# Altium footprint library LSM6DSV32XTR.PcbLib: 3 footprints
Each footprint in its own frame and in the unit in brackets; x right, y up, seen from the top. Pads: shape width x height; smd on the part's side, far side on the other; paste and mask are expansions set on the pad; w line width, h text height; cw(c..) or ccw(c..) is an arc to the next point about the centre after c.
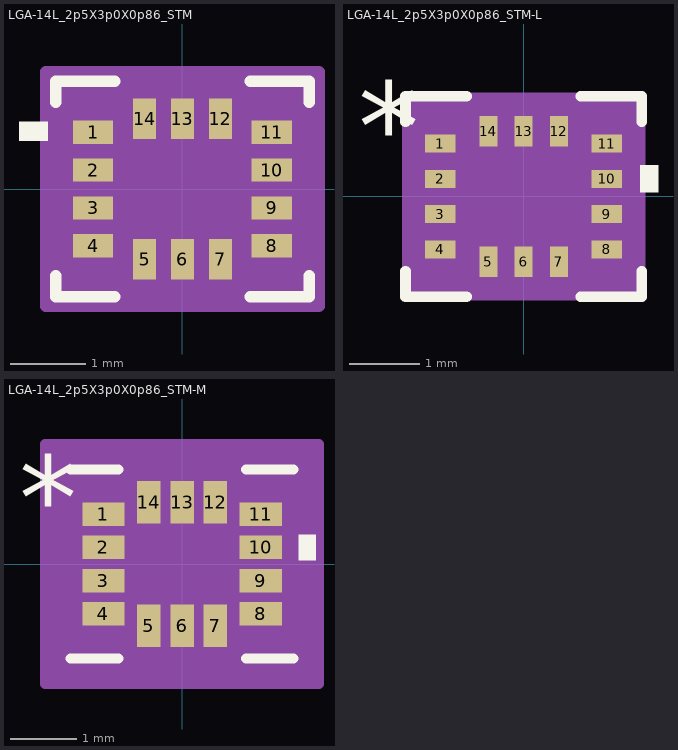
[diagram p0: the footprints below, top view; thin cyan lines are the x and y axes]

## LGA-14L_2p5X3p0X0p86_STM [mil]
pads (14):
  rect 21x12 smd paste+0 mask+0: 1(-46.5,29.53) 2(-46.5,9.84) 3(-46.5,-9.84) 4(-46.5,-29.53) 8(46.5,-29.53) 9(46.5,-9.84) 10(46.5,9.84) 11(46.5,29.53)
  rect 12x21 smd paste+0 mask+0: 5(-19.68,-36.5) 6(0,-36.5) 7(19.68,-36.5) 12(19.68,36.5) 13(0,36.5) 14(-19.68,36.5)
Top Overlay:
  region: -85,25 -85,35 -70,35 -70,25
  lines w6: -66,-45.05 -66,-56 -35.2,-56 ; -66,45.05 -66,56 -35.2,56 ; 35.2,-56 66,-56 66,-45.05 ; 35.2,56 66,56 66,45.05
Mechanical 13:
  lines w1: -61,1 -11,51 ; -61,-51 61,-51 61,51 -61,51 -61,-51 ; -61,-35.53 -61,-23.53 -57,-23.53 -57,-35.53 -61,-35.53 ; -61,-15.84 -61,-3.84 -57,-3.84 -57,-15.84 -61,-15.84 ; -61,3.84 -61,15.84 -57,15.84 -57,3.84 -61,3.84 ; -61,23.53 -61,35.53 -57,35.53 -57,23.53 -61,23.53 ; -25.68,-51 -13.69,-51 -13.69,-47 -25.68,-47 -25.68,-51 ; -25.68,47 -13.69,47 -13.69,51 -25.68,51 -25.68,47 ; -6,-51 6,-51 6,-47 -6,-47 -6,-51 ; -6,47 6,47 6,51 -6,51 -6,47 ; 13.69,-51 25.68,-51 25.68,-47 13.69,-47 13.69,-51 ; 13.69,47 25.68,47 25.68,51 13.69,51 13.69,47 ; 57,-35.53 61,-35.53 61,-23.53 57,-23.53 57,-35.53 ; 57,-15.84 61,-15.84 61,-3.84 57,-3.84 57,-15.84 ; 57,3.84 61,3.84 61,15.84 57,15.84 57,3.84 ; 57,23.53 61,23.53 61,35.53 57,35.53 57,23.53
  text "*" at -48.5,14.37 h50
Mechanical 15:
  region: -35.69,-61 -71,-61 -71,-45.53 -71,45.53 -71,61 -35.69,61 35.69,61 71,61 71,45.53 71,-45.53 71,-61 35.69,-61
  lines w6: -71,-61 -71,-45.53 -71,45.53 -71,61 -35.69,61 35.69,61 71,61 71,45.53 71,-45.53 71,-61 35.69,-61 -35.69,-61 -71,-61
3D body "LGA-14L_2p5X3p0X0p86_STM.step": height 34.09, standoff 0, extent -60.98,-50.98 60.98,50.98

## LGA-14L_2p5X3p0X0p86_STM-L [mil]
pads (14):
  rect 17.06x10.03 smd paste+0 mask+0: 1(-46.5,29.53) 2(-46.5,9.84) 3(-46.5,-9.84) 4(-46.5,-29.53) 8(46.5,-29.53) 9(46.5,-9.84) 10(46.5,9.84) 11(46.5,29.53)
  rect 10.03x17.06 smd paste+0 mask+0: 5(-19.68,-36.5) 6(0,-36.5) 7(19.68,-36.5) 12(19.68,36.5) 13(0,36.5) 14(-19.68,36.5)
Top Overlay:
  region: 65.03,17.34 75.03,17.34 75.03,2.34 65.03,2.34
  lines w6: -66,-41.71 -66,-56 -31.86,-56 ; -66,41.71 -66,56 -31.86,56 ; 31.86,-56 66,-56 66,-41.71 ; 31.86,56 66,56 66,41.71
  text "*" at -92.53,14.37 h50
  text ".Designator" at -137.5,-25 h50
Mechanical 13:
  lines w1: -61,1 -11,51 ; -61,-51 61,-51 ; -61,-51 -61,51 ; -61,-51 -61,-51 ; -61,51 61,51 ; -61,51 -61,51 ; 61,-51 61,-51 ; 61,-51 61,51 ; 61,51 61,51 ; -61,-35.53 -61,-23.53 -57,-23.53 -57,-35.53 -61,-35.53 ; -61,-15.84 -61,-3.84 -57,-3.84 -57,-15.84 -61,-15.84 ; -61,3.84 -61,15.84 -57,15.84 -57,3.84 -61,3.84 ; -61,23.53 -61,35.53 -57,35.53 -57,23.53 -61,23.53 ; -25.68,-51 -13.69,-51 -13.69,-47 -25.68,-47 -25.68,-51 ; -25.68,47 -13.69,47 -13.69,51 -25.68,51 -25.68,47 ; -6,-51 6,-51 6,-47 -6,-47 -6,-51 ; -6,47 6,47 6,51 -6,51 -6,47 ; 13.69,-51 25.68,-51 25.68,-47 13.69,-47 13.69,-51 ; 13.69,47 25.68,47 25.68,51 13.69,51 13.69,47 ; 57,-35.53 61,-35.53 61,-23.53 57,-23.53 57,-35.53 ; 57,-15.84 61,-15.84 61,-3.84 57,-3.84 57,-15.84 ; 57,3.84 61,3.84 61,15.84 57,15.84 57,3.84 ; 57,23.53 61,23.53 61,35.53 57,35.53 57,23.53
  text ".Designator" at -137.5,-25 h50
  text "*" at -50.47,14.37 h50
Mechanical 15:
  region: -28.7,-55 -65,-55 -65,-38.54 -65,38.54 -65,55 -28.7,55 28.7,55 65,55 65,38.54 65,-38.54 65,-55 28.7,-55
  lines w6: -65,-38.54 -65,-55 -28.7,-55 ; -65,-38.54 -65,-38.54 ; -65,-38.54 -65,38.54 ; -65,38.54 -65,38.54 ; -65,38.54 -65,55 -28.7,55 ; -28.7,-55 28.7,-55 ; -28.7,-55 -28.7,-55 ; -28.7,55 -28.7,55 ; -28.7,55 28.7,55 ; 28.7,-55 65,-55 65,-38.54 ; 28.7,-55 28.7,-55 ; 28.7,55 28.7,55 ; 28.7,55 65,55 65,38.54 ; 65,-38.54 65,38.54 ; 65,-38.54 65,-38.54 ; 65,38.54 65,38.54
3D body "LGA-14L_2p5X3p0X0p86_STM.step": height 34.09, standoff 0, extent -60.98,-50.98 60.98,50.98

## LGA-14L_2p5X3p0X0p86_STM-M [mil]
pads (14):
  rect 24.94x13.97 smd paste+0 mask+0: 1(-46.5,29.53) 2(-46.5,9.84) 3(-46.5,-9.84) 4(-46.5,-29.53) 8(46.5,-29.53) 9(46.5,-9.84) 10(46.5,9.84) 11(46.5,29.53)
  rect 13.97x24.94 smd paste+0 mask+0: 5(-19.68,-36.5) 6(0,-36.5) 7(19.68,-36.5) 12(19.68,36.5) 13(0,36.5) 14(-19.68,36.5)
Top Overlay:
  region: 68.97,17.34 78.97,17.34 78.97,2.34 68.97,2.34
  lines w6: -66,-56 -37.72,-56 ; -66,56 -37.72,56 ; 37.72,-56 66,-56 ; 37.72,56 66,56
  text "*" at -96.47,14.37 h50
  text ".Designator" at -137.5,-25 h50
Mechanical 13:
  lines w1: -61,1 -11,51 ; -61,-51 61,-51 ; -61,-51 -61,51 ; -61,-51 -61,-51 ; -61,51 61,51 ; -61,51 -61,51 ; 61,-51 61,-51 ; 61,-51 61,51 ; 61,51 61,51 ; -61,-35.53 -61,-23.53 -57,-23.53 -57,-35.53 -61,-35.53 ; -61,-15.84 -61,-3.84 -57,-3.84 -57,-15.84 -61,-15.84 ; -61,3.84 -61,15.84 -57,15.84 -57,3.84 -61,3.84 ; -61,23.53 -61,35.53 -57,35.53 -57,23.53 -61,23.53 ; -25.68,-51 -13.69,-51 -13.69,-47 -25.68,-47 -25.68,-51 ; -25.68,47 -13.69,47 -13.69,51 -25.68,51 -25.68,47 ; -6,-51 6,-51 6,-47 -6,-47 -6,-51 ; -6,47 6,47 6,51 -6,51 -6,47 ; 13.69,-51 25.68,-51 25.68,-47 13.69,-47 13.69,-51 ; 13.69,47 25.68,47 25.68,51 13.69,51 13.69,47 ; 57,-35.53 61,-35.53 61,-23.53 57,-23.53 57,-35.53 ; 57,-15.84 61,-15.84 61,-3.84 57,-3.84 57,-15.84 ; 57,3.84 61,3.84 61,15.84 57,15.84 57,3.84 ; 57,23.53 61,23.53 61,35.53 57,35.53 57,23.53
  text ".Designator" at -137.5,-25 h50
  text "*" at -46.53,14.37 h50
Mechanical 15:
  region: -46.67,-71 -81,-71 -81,-56.51 -81,56.51 -81,71 -46.67,71 46.67,71 81,71 81,56.51 81,-56.51 81,-71 46.67,-71
  lines w6: -81,-56.51 -81,-71 -46.67,-71 ; -81,-56.51 -81,-56.51 ; -81,-56.51 -81,56.51 ; -81,56.51 -81,56.51 ; -81,56.51 -81,71 -46.67,71 ; -46.67,-71 46.67,-71 ; -46.67,-71 -46.67,-71 ; -46.67,71 -46.67,71 ; -46.67,71 46.67,71 ; 46.67,-71 81,-71 81,-56.51 ; 46.67,-71 46.67,-71 ; 46.67,71 46.67,71 ; 46.67,71 81,71 81,56.51 ; 81,-56.51 81,56.51 ; 81,-56.51 81,-56.51 ; 81,56.51 81,56.51
3D body "LGA-14L_2p5X3p0X0p86_STM.step": height 34.09, standoff 0, extent -60.98,-50.98 60.98,50.98